# Altium footprint library MCP2515.PcbLib: 1 footprints
Each footprint in its own frame and in the unit in brackets; x right, y up, seen from the top. Pads: shape width x height; smd on the part's side, far side on the other; paste and mask are expansions set on the pad; w line width, h text height; cw(c..) or ccw(c..) is an arc to the next point about the centre after c.
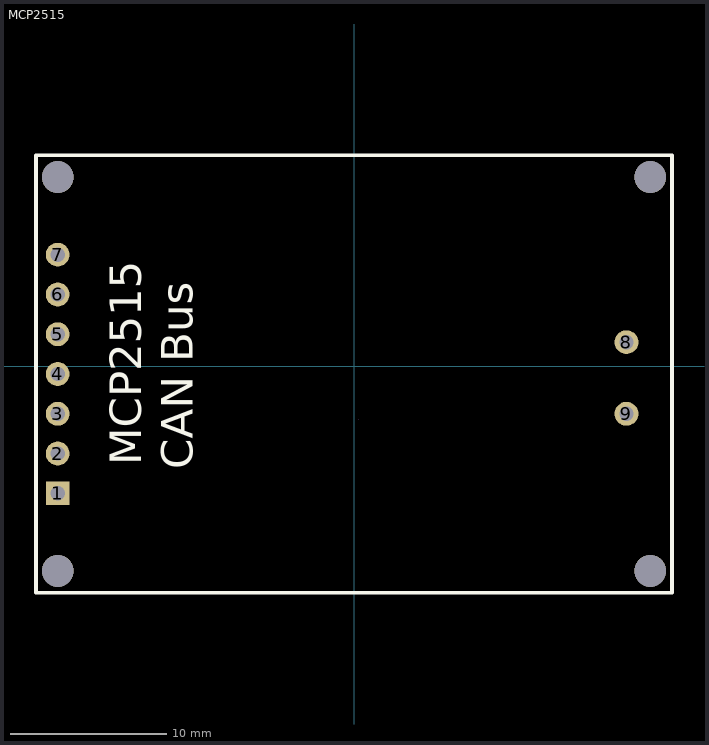
[diagram p0: the footprint, top view; thin cyan lines are the x and y axes]

## MCP2515 [mil]
pads (13):
  rect 60x60 hole 36 paste-99999 mask+2: 1(-745,-320)
  round 60 hole 36 paste-99999 mask+2: 2(-745,-220) 3(-745,-120) 4(-745,-20) 5(-745,80) 6(-745,180) 7(-745,280) 8(685,60) 9(685,-120)
  round 80 hole 80 unplated paste-99999: ""(-745,-515) ""(-745,475) ""(745,-515) ""(745,475)
Top Overlay:
  lines w10: -800,-570 800,-570 800,530 -800,530 -800,-570
  text "MCP2515" at -535,-250 h80
  text "CAN Bus" at -405,-260 h80
Mechanical 15:
  lines w0.1: 12.49,-135.01 12.51,-134.99
3D body "MCP2515 Module.step": height 393.7, standoff -157.48, extent -792.4,-571.18 782.4,531.18